# EAGLE library part SN65HVD251P (library SN65HVD251P-pcb-part-libraries)
CAN Transceiver 1Mbit/s ISO 11898 Shutdown, Standby-Mode 8pins PDIP Source: Datasheet <https://datasheet.datasheetarchive.com/originals/distributors/Datasheets-SFU2/DSASFU100031695.pdf>
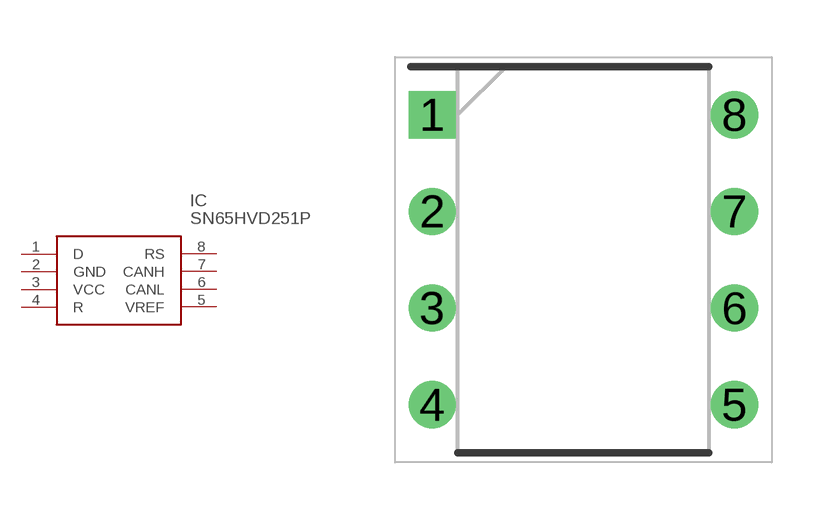
[diagram p0: symbol with the pads of DIP794W53P254L959H508Q8N; footprint DIP794W53P254L959H508Q8N]

Designator prefix IC

## SN65HVD251P (Description: CAN Transceiver 1Mbit/s ISO 11898 Shutdown, Standby-Mode 8pins PDIP; Height: 5.08mm; Manufacturer_Name: Texas Instruments; Manufacturer_Part_Number: SN65HVD251P; Mouser_Part_Number: 595-SN65HVD251P; Mouser_Price-Stock: https://www.mouser.co.uk/ProductDetail/Texas-Instruments/SN65HVD251P?qs=QViXGNcIEAszR6KoVWDFIw%3D%3D)  [DIP794W53P254L959H508Q8N]
1  D
2  GND
3  VCC
4  R
5  VREF
6  CANL
7  CANH
8  RS

## Footprint DIP794W53P254L959H508Q8N (pad centres in mm)
P (R-PDIP-T8)
drill 0.73 pad 1.13 square: 1 -3.97,3.81
drill 0.73 pad 1.13: 2 -3.97,1.27; 3 -3.97,-1.27; 4 -3.97,-3.81; 5 3.97,-3.81; 6 3.97,-1.27; 7 3.97,1.27; 8 3.97,3.81